# EAGLE library part 6620XX11022_66201111022 (library Wurth_Connectors_WR-MPC3)
WR-MPC3 3.00 mm Male Single Row Angled Header w. Plastic Pegs KIND PROPERTIES Pitch 3 mm Gender Male MATERIAL PROPERTIES Insulator Material LCP Insulator Flammability Rating UL94 V-0 Insulator Color Black Contact Material Copper Alloy Contact Plating Tin Contact Type Stamped GENERAL INFORMATION Operating Temperature -40 up to +105 °C Compliance:RoHS Working Voltage 250 V (AC) Withstanding Voltage 1500 V (AC) Contact Resistance 10 mΩ RISO 1000 MΩ CERTIFICATION UL Approval E323964 WIRE PROPERTIES Packaging:Tube <https://katalog.we-online.com/media/images/v2/o33165v209%20Family_WR-MPC3_6620xx11022.jpg> Details see: https://katalog.we-online.com/en/em/MPC3_3_00_SMT_MALE_SINGLE_ROW_ANGLED_HEADER_W_PLASTIC_PEGS_6620XX11022 Created by Yingchun,Shan 2019-11-15 2019 (C) Würth Elektronik
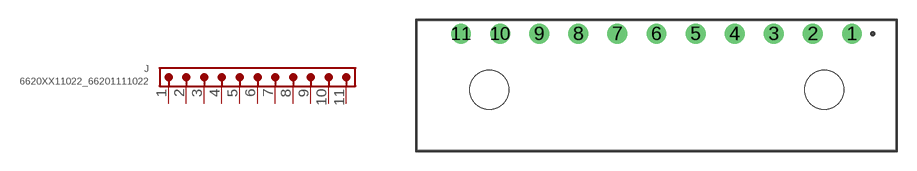
[diagram p97: symbol with the pads of 66201111022; footprint 66201111022]

Designator prefix J

## 6620XX11022_66201111022 (CONTACT-RESISTANCE: 10Ohm; DATASHEET-URL: https://www.we-online.com/redexpert/spec/66201111022?ae; GENDER: Male; IR: 5A; MOUNT: SMT; PART-NUMBER: 66201111022; PINS: 11; PITCH: 3mm; ROWS: Single; TOL-R: max.; TYPE: Right Angled; VALUE: 66201111022; WORKING-VOLTAGE: 250V(AC))  [66201111022]
1  1  pas
2  2  pas
3  3  pas
4  4  pas
5  5  pas
6  6  pas
7  7  pas
8  8  pas
9  9  pas
10  10  pas
11  11  pas

## Footprint 66201111022 (pad centres in mm)
WR-MPC3 3.00 mm Male Single Row Angled Header w. Plastic Pegs, 11 Pins
drill 1.02: 1 15,3.97; 2 12,3.97; 3 9,3.97; 4 6,3.97; 5 3,3.97; 6 0,3.97; 7 -3,3.97; 8 -6,3.97; 9 -9,3.97; 10 -12,3.97; 11 -15,3.97
hole 3 at 12.86,-0.35
hole 3 at -12.84,-0.35